# Altium schematic symbol library pcb_thermoklok_1.SCHLIB: 26 symbols
Pins are listed as number, name and electrical type; pins without a type are passive.

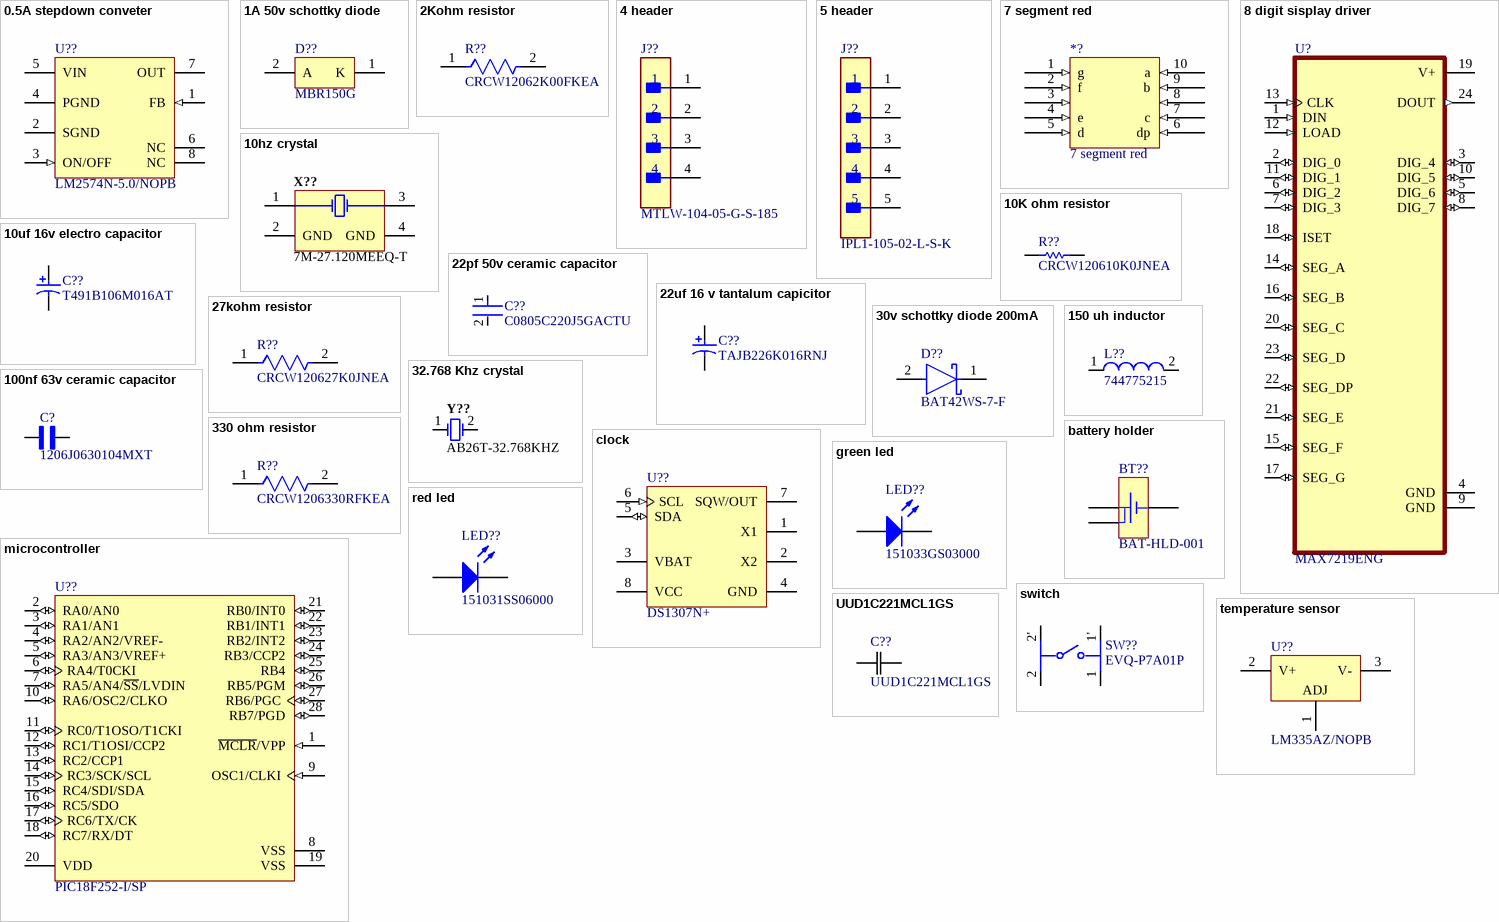
[diagram p0: symbols 0.5A stepdown conveter to UUD1C221MCL1GS]

## 0.5A stepdown conveter
designator U??, comment LM2574N-5.0/NOPB
SIMPLE SWITCHER® 0.5A Step-Down Voltage Regulator, 8-pin MDIP, Pb-Free; Manufacturer: Texas Instruments; Manufacturer: TI National Semiconductor; PowerWise: N; PackageTopMarking: NSUZXYTTE#*LM2574N*-5.0 P+; PinCount: 8; ComponentLink1URL: http://www.ti.com/general/docs/lit/getliterature.tsp?genericPartNumber=LM2574&fileType=pdf; CompType: Switcher; Code_JEDEC: MS-001-BA; ComponentLink1Description: Datasheet URL; RoHS: Y; PackageDescription: MDIP, .365 x .250 x .130in, 8 Lead, .100in Pitch; PackageReference: P0008A; Manufacturer Part Number: LM2574N-5.0/NOPB
footprint P0008A (DIP, 8-Leads, Body 10.15x6.6mm, Pitch 2.54mm)
pins: 1 FB (in), 2 SGND (power), 3 ON/OFF (in), 4 PGND (power), 5 VIN (power), 6 NC, 7 OUT (power), 8 NC

## 1A 50v schottky diode
designator D??, comment MBR150G
Rectifier, 2-Pin Axial_Lead, Pb-Free, Bulk Bag; Manufacturer: On Semiconductor; IFSM Max (A): 25; Configuration: Single; PackageVersion: Rev. U, 02/2005; Packing: Bulk Bag; ComponentLink3URL: http://www.onsemi.cn/pub_link/Collateral/59-10.PDF; ComponentLink1Description: Manufacturer URL; ComponentLink3Description: Package Specification; Mounting Technology: Through Hole; ComponentLink2Description: Datasheet; PartNumber: MBR150G; ComponentLink1URL: http://www.onsemi.com/; ComponentLink2URL: http://www.onsemi.cn/pub_link/Collateral/MBR150-D.PDF; PackageDescription: 2-Pin, Axial Lead, Diameter 2.35 mm; PackageReference: AXIAL_LEAD-2-59-10; DatasheetVersion: Rev. 8; RoHS: TRUE; Manufacturer: ON Semiconductor; Manufacturer Part Number: MBR150G
footprint ONSC-AXIAL_LEAD-2-59-10_P (AXIAL, 2-Leads, Diameter 2.35mm)
pins: 1 K, 2 A

## 2Kohm resistor
designator R??, comment CRCW12062K00FKEA
RES Thick Film, 2kΩ, 1%, 0.25W, 100ppm/°C, 1206; Manufacturer: Vishay; Manufacturer: Vishay Dale; Manufacturer Part Number: CRCW12062K00FKTC; Manufacturer: Yageo; Manufacturer Part Number: RC1206FR-072KL; Manufacturer: Panasonic; Manufacturer Part Number: ERJ-8ENF2001V; Manufacturer Part Number: CRCW12062K00FKTA; Manufacturer Part Number: CRCW12062K00FKTB; Manufacturer: Bourns; Manufacturer Part Number: CR1206-FX-2001ELF; Manufacturer: Rohm; Manufacturer Part Number: MCR18EZPF2001; Manufacturer Part Number: CRCW12062K00FKEB; Max Power Dissipation: 250mW; Voltage Rating: 200V; Resistance: 2kR; Package Quantity: 10; Height: 0.55mm; Tolerance: 1%; Number of Terminations: 2; Mount: Surface Mount; Width: 1.6mm; Length: 3.2mm; Features: Automotive AEC-Q200; Contact Plating: Tin; Number of Pins: 2; Weight: 0.000353oz; Max Operating Temperature: 155°C; Min Operating Temperature: -55°C; Termination: SMD/SMT; Temperature Coefficient: 100ppm/°C; Case Code (Imperial): 1206; Depth: 1.6mm; Military Standard: Not; Case Code (Metric): 3216; Composition: Thick Film; Power Rating: 250mW; Case/Package: 1206; Radiation Hardening: No; Packaging: Tape and Reel; Manufacturer Part Number: CRCW12062K00FKEA
footprint FP-CRCW1206-e3-IPC_A
footprint FP-CRCW1206-e3-IPC_C
footprint FP-CRCW1206-e3-IPC_B
footprint FP-CRCW1206-e3-MFG
pins: 1, 2

## 4 header
designator J??, comment MTLW-104-05-G-S-185
CONN HEADER VERT 4POS 2.54MM; Manufacturer: Samtec; Number of Contacts: 4; Contact Resistance: 15mR; Connector Type: Male Pin; Gender: Male; Contact Material: Brass; Height: 6.4mm; Contact Mating Length: 0.185inch; Length: 29.64mm; Number of Positions: 4; Packaging: Rail/Tube; Mount: Through Hole; Depth: 2.48mm; Number of Rows: 1; Radiation Hardening: No; Housing Material: Polymer; Pitch: 2.54mm; Max Operating Temperature: 105°C; Termination: Solder; Min Operating Temperature: -40°C; Color: Black; Orientation: Straight; Housing Color: Black; Contact Plating: Gold; Manufacturer Part Number: MTLW-104-05-G-S-185
footprint FP-MTLW-104-05-G-S-185-MFG
pins: 1, 2, 3, 4

## 5 header
designator J??, comment IPL1-105-02-L-S-K
5 Position 1 Row .100" (2.54 mm) pitch connector; Manufacturer: Samtec; Number of Positions: 5; Max Current Rating: 7.4A; Pitch: 2.54mm; Connector Type: Male Pin; Max Voltage Rating (AC): 675V; Number of Ports: 1; Gender: Male; Termination: Solder; Min Operating Temperature: -55°C; Max Operating Temperature: 125°C; Mount: Surface Mount; Contact Material: Bronze; Housing Material: Polymer; Depth: 7.04mm; Color: Natural; REACH SVHC: No SVHC; Radiation Hardening: No; Orientation: Straight; Fastening Type: Ramp; Contact Mating Length: 0.215inch; Number of Terminals/Pins: 5; Number of Rows: 1; Packaging: Rail/Tube; Contact Plating: Gold; Length: 14.22mm; Number of Contacts: 5; Lead Free: Lead Free; Manufacturer Part Number: IPL1-105-02-L-S-K
footprint FP-IPL1-105-02-L-S-K-0
pins: 1, 2, 3, 4, 5

## 7 segment red
designator *?
footprint 7 segment
pins: 1 g (in), 2 f (in), 3 (in), 4 e (in), 5 d (in), 6 dp (in), 7 c (in), 8 (in), 9 b (in), 10 a (in)

## 8 digit sisplay driver
designator U?, comment MAX7219ENG
8 digit display; MF: Maxim Integrated; Price: None; Package: DIP-24 Maxim Integrated; Value: *; MP: MAX7219ENG; Availability: Unavailable; SnapEDA_Link: https://www.snapeda.com/parts/MAX7219ENG/Maxim%20Integrated/view-part/1189180/?ref=snap
footprint DIP794W47P254L3213H457Q24
pins: 1 DIN (in), 2 DIG_0 (io), 3 DIG_4 (io), 4 GND (power), 5 DIG_6 (io), 6 DIG_2 (io), 7 DIG_3 (io), 8 DIG_7 (io), 9 GND (power), 10 DIG_5 (io), 11 DIG_1 (io), 12 LOAD (in), 13 CLK (in), 14 SEG_A (io), 15 SEG_F (io), 16 SEG_B (io), 17 SEG_G (io), 18 ISET (io), 19 V+ (power), 20 SEG_C (io), 21 SEG_E (io), 22 SEG_DP (io), 23 SEG_D (io), 24 DOUT (out)

## 10hz crystal
designator X??, comment 7M-27.120MEEQ-T
Seam Crystal, 7M Series, 3 pF, -40 to 85 degC, 4-Pin SMD, RoHS, Tape and Reel; Manufacturer: TXC; ESR (Equivalent Series Resistance): 60Ohm; Operating Mode: Fundamental; Frequency Stability: ±10ppm; Other Names: 887-1329-1; Catalog Drawings: 7MSeriesTop / 7MSeriesBottom / 7MSeriesSide / 7MSeriesCircuit; Frequency: 27.12MHz; Load Capacitance: 10pF; Mounting Technology: SurfaceMount; Type: MHzCrystal; Height: 0.031"(0.80mm); Mounting Type: SurfaceMount; Series: 7M; Package Reference: 7M-4; Size / Dimension: 0.126"Lx0.098"W(3.20mmx2.50mm); Package Description: 4-Pin Surface Mount Device, Body 3.2 x 2.5 mm; Datasheet URL: http://datasheet.octopart.com/7M-27.120MEEQ-T-TXC-datasheet-10979173.pdf; Operating Temperature: -20°C~70°C; Datasheet Version: 02/2010; Family: Crystals; Dynamic Catalog: 7MSeries; Packaging: CutTape(CT); Manufacturer URL: http://www.txccorp.com/; Standard Package: 1; Category: CrystalsandOscillators; Frequency Tolerance: ±10ppm; Package / Case: 4-SMD,NoLead(DFN,LCC); Manufacturer Part Number: 7M-27.120MEEQ-T
footprint TXC-7M-4_V (SMD, 4-Leads, Body 3.2x2.5mm)
pins: 1 X1, 2 GND (power), 3 X2, 4 GND (power)

## 10K ohm resistor
designator R??, comment CRCW120610K0JNEA
Manufacturer: Vishay Dale; Part Number: CRCW120610K0JNEA; Manufacturer Part Number: CRCW120610K0JNEA
footprint RESC3216X60X45ML10T20 (Chip Resistor, 2-Leads, Body 3.20x1.60mm, IPC Low Density)
footprint RESC3216X60X45LL10T20 (Chip Resistor, 2-Leads, Body 3.20x1.60mm, IPC High Density)
footprint RESC3216X60X45NL10T20 (Chip Resistor, 2-Leads, Body 3.20x1.60mm, IPC Medium Density)
pins: 1, 2
1 alternate drawing of the same symbol

## 10uf 16v electro capacitor
designator C??, comment T491B106M016AT
Tantalum Surface Mount Capacitor, 10 uF, +/- 20%, 16 V, -55 to 125 degC, 2-Pin SMD, RoHS, Tape and Reel; Manufacturer: Kemet; DF: 6%; Product Diameter (mm): NotRequiredmm; ESR: 2.8ohm; Capacitance: 10000000pF; Insulation: NotRequired; Rad Hardened: No; Polarity: Polar; Case Style: Molded; Product Depth (mm): 2.8mm; Product Length (mm): 3.5mm; Voltage: 16VDC; DCL: 1.6uA; Product Height (mm): 1.9mm; Mounting Technology: SurfaceMount; Package Reference: T491-B; Datasheet URL: http://www.kemet.com/Lists/ProductCatalog/Attachments/254/KEM_T2005_T491.pdf; Construction: SMTChip; Package / Case: 3528-21; Length W/Weld: NotRequiredmm; Seated Plane Height: NotRequiredmm; Datasheet Version: 06/2016; Seal: NotRequired; Mounting Style: SurfaceMount; Failure Rate: NotRequired; Operating Temp Range: -55Cto125C; Manufacturer URL: http://www.kemet.com/; Tolerance (+ or -): 20%; Case Code: B; Packaging: TapeandReel; Lead Spacing (nom): NotRequiredmm; Length W/Weld (max): NotRequiredmm; Package Description: 2-Pin Surface Mount Device, Body 3.5 x 2.8 mm; Wire Form: NotRequired; Manufacturer: KEMET; Manufacturer Part Number: T491B106M016AT
footprint KEMT-T491-B_L (Molded Capacitor, 2-Leads, Body 3.70x3.00mm, IPC High Density)
footprint KEMT-T491-B_M (Molded Capacitor, 2-Leads, Body 3.70x3.00mm, IPC Low Density)
footprint KEMT-T491-B_N (Molded Capacitor, 2-Leads, Body 3.70x3.00mm, IPC Medium Density)
pins: 1, 2

## 22pf 50v ceramic capacitor
designator C??, comment C0805C220J5GACTU
Capacitor; Ceramic; Cap; 22.0pF; Tol 5%; SMT; Vol-Rtg 50V; C0G; Tape and Reel; Manufacturer: KEMET; Temperature Coefficient: 30ppm/°C; Capacitance: 22 pF; Value: 22 pF; Tolerance: 0.05; Device Class L1: Passive Components; Mouser Description: Multilayer Ceramic Capacitors MLCC - SMD/SMT 50volts 22pF C0G 5%; Temperature Range Low: -55°C; Automotive: No; Voltage Rating: 50 V; Material: Ceramic; Category: Cap; Height: 0.88mm; Temperature Range High: +125°C; Digikey Description: Capacitor; Ceramic; Cap; 22.0pF; Tol 5%; SMT; Vol-Rtg 50V; C0G; Tape and Reel; Octopart: https://octopart.com/c0805c220j5gactu-kemet-145470; ComponentLink2Description: Datasheet; Device Class L2: Capacitors; Ipc Land Pattern Name: CAPC200125X78; RoHS: TRUE; ComponentLink2URL: https://content.kemet.com/datasheets/KEM_C1003_C0G_SMD.pdf; Temperature: -55°C to +125°C; Device Class L3: Ceramic Capacitors; Lead Free: Yes; Manufacturer Part Number: C0805C220J5GACTU; Temperature Characteristic: C0G; Package: C0805C-DN
footprint FP-C0805C-DN-MFG
footprint FP-C0805C-DN-IPC_C
footprint FP-C0805C-DN-IPC_B
footprint FP-C0805C-DN-IPC_A
pins: 1, 2

## 22uf 16 v tantalum capicitor
designator C??, comment TAJB226K016RNJ
Standard Tantalum, 22 uF, +/- 10%, 16 V, -55 to 125 degC, 2-Pin SMD (1210), RoHS, Tape and Reel; Manufacturer: AVX; Manufacturer: Kyocera AVX; Leakage Current: 3.5uA; Dissipation Factor: 6%; Voltage Rating (DC): 16V; Capacitance: 22uF; ESR (Equivalent Series Resistance): 2.3Ohm; Polarity: Polar; Package Quantity: 1; Tolerance: 10%; Number of Pins: 2; Manufacturer URL: http://www.avx.com/; Height - Seated (Max): 0.083inch; Case Code (Imperial): 1210; Package Reference: TAJ-B-2; Height: 1.9mm; Depth: 2.8mm; Packaging: TapeandReel; Termination: SMD/SMT; Case/Package: 1210; Lead Free: LeadFree; Min Operating Temperature: -55degC; RoHSCompliant: True; Dielectric Material: Tantalum; Case Code (Metric): 3528; Width: 2.8mm; Datasheet URL: http://datasheets.avx.com/TAJ.pdf; Radiation Hardening: No; Package Description: 2-Pin Surface Mount Device, Body 3.5 x 2.85 mm; Length: 3.5mm; Voltage Rating: 16V; Datasheet Version: 42401.0; Max Operating Temperature: 125degC; REACH SVHC: NoSVHC; Voltage: 16V; Manufacturer Part Number: TAJB226K016RNJ
footprint AVX-TAJ-B-2_M (Molded Capacitor, 2-Leads, Body 3.7x3mm, IPC Low Density)
footprint AVX-TAJ-B-2_N (Molded Capacitor, 2-Leads, Body 3.7x3mm, IPC Medium Density)
footprint AVX-TAJ-B-2_L (Molded Capacitor, 2-Leads, Body 3.7x3mm, IPC High Density)
pins: 1, 2

## 27kohm resistor
designator R??, comment CRCW120627K0JNEA
RES Thick Film, 27kΩ, 5%, 0.25W, 200ppm/°C, 1206; Manufacturer: Vishay Dale; Manufacturer Part Number: CRCW120627K0JNTA; Manufacturer: Yageo; Manufacturer Part Number: RC1206JR-0727KL; Manufacturer Part Number: CRCW120627K0JNEB; Manufacturer: Bourns; Manufacturer Part Number: CR1206-JW-273ELF; Manufacturer: Rohm; Manufacturer Part Number: MCR18EZPJ273; Manufacturer: Panasonic; Manufacturer Part Number: ERJ-8GEYJ273V; Power Rating: 250mW; Voltage Rating: 200V; Resistance: 27kR; Packaging: Tape and Reel; Number of Terminations: 2; Case Code (Metric): 3216; Temperature Coefficient: 200ppm/°C; Width: 1.6mm; Depth: 1.6mm; Height: 0.024inch; Min Operating Temperature: -55°C; Composition: Thick Film; Length: 3.2mm; Lead Free: Lead Free; Features: Automotive AEC-Q200; Case Code (Imperial): 1206; Radiation Hardening: No; Contact Plating: Tin; Case/Package: 1206; Weight: 0.000353oz; Military Standard: Not; Max Operating Temperature: 155°C; Voltage Rating (DC): 200V; Termination: SMD/SMT; Number of Pins: 2; Package Quantity: 1; Max Power Dissipation: 250mW; Tolerance: 5%; Manufacturer Part Number: CRCW120627K0JNEA
footprint FP-CRCW1206-e3-MFG
footprint FP-CRCW1206-e3-IPC_C
footprint FP-CRCW1206-e3-IPC_B
footprint FP-CRCW1206-e3-IPC_A
pins: 1, 2

## 30v schottky diode 200mA
designator D??, comment BAT42WS-7-F
DIODE SCHOTTKY 30V 200MA SOD323; Manufacturer: Diodes Inc.; Manufacturer: Diodes; Max Junction Temp: +125°C; Peak Reverse Current: 0.5uA; Max Surge Forward Current: 4A; Standoff Height: 0.05mm; Capacitance: 10pF; Value: 10pF; Package: SOD323; Max Repetitive Reverse Voltage: 30V; Digikey Description: DIODE SCHOTTKY 30V 200MA SOD323; Forward Current: 200mA; Lead Free: Yes; Device Class L1: Discrete Semiconductors; Height: 1.2mm; Mouser Description: Schottky Diodes & Rectifiers 30V 200mW; Footprint Url: https://www.diodes.com/assets/Package-Files/SOD323.pdf; Automotive: No; Device Class L3: Schottky Diodes; Temperature: -55°C to +125°C; ComponentLink2Description: Datasheet; Temperature Range High: +125°C; Manufacturer Part Number: BAT42WS-7-F; ComponentLink2URL: https://www.diodes.com/assets/Datasheets/ds30100.pdf; Reverse Voltage: 30V; Octopart: https://octopart.com/bat42ws-7-f-diodes+inc.-326107; Temperature Range Low: -55°C; Category: Diode; RoHS: TRUE; Device Class L2: Diodes
footprint FP-SOD323-MFG
footprint FP-SOD323-IPC_C
footprint FP-SOD323-IPC_B
footprint FP-SOD323-IPC_A
pins: 1 C, 2 A

## 32.768 Khz crystal
designator Y??, comment AB26T-32.768KHZ
Crystal, 12.5 pF, 32.768 KHz, -10 to 60 degC, 2-Pin THD, RoHS, Bulk; Manufacturer: ABRACON; ESR: 35kOhms; Frequency Stability: -0.034PPM; Load Capacitance: 12.5pF; Tolerance: 20PPM; Case Length: 6.2mm; Case Diameter: 2.1mm; RoHS: Details; Product Category: Crystals; Type: WatchCrystal; Manufacturer URL: http://www.abracon.com/; Operating Temperature Range: -10Cto+60C; Package Description: 2-Pin Through Hole Device, Dia 2.1 mm, Body Length 6.2 mm; Termination Style: Radial; Datasheet Version: 06/2010; Datasheet URL: http://www.abracon.com/Resonators/AB26T.pdf; Packaging: Bulk; Factory Pack Quantity: 500; Brand: ABRACON; Mounting Technology: ThroughHole; Package URL: http://www.abracon.com/Support/PackageDrawing/Resonators/AB26T.PDF; Package / Case: Cylinder; Lead Spacing: 0.8mm; Dimensions: 2.1mmDia.x6.2mmL; Mounting Style: ThroughHole; Frequency: 32.768kHz; Package Reference: AB26T; Series: AB26T; Manufacturer: Abracon; Manufacturer Part Number: AB26T-32.768KHZ
footprint ABRA-AB26T (THD, 2-Leads, Dia 2.1mm, Body Length 6.2mm)
pins: 1, 2

## 100nf 63v ceramic capacitor
designator C?, comment 1206J0630104MXT
63V Ceramic Capacitor; MF: Knowles Syfer; MP: 1206J0630104MXT; SnapEDA_Link: https://www.snapeda.com/parts/1206J0630104MXT/Knowles%20Syfer/view-part/4314687/?ref=snap; DigiKey-Purchase-URL: https://snapeda.com/shop?store=DigiKey&id=4314687; Mouser-Purchase-URL: https://snapeda.com/shop?store=Mouser&id=4314687; Value: *; Digi-Key_Part_Number: 1608-1392-1-ND; Package: 3216 Knowles Syfer
footprint CAPC3216X160N
pins: ?1, ?2

## 150 uh inductor
designator L??, comment 744775215
SMD Power Inductor WE-PD2, L = 150 µH; Manufacturer: Wurth Electronics; Inductance: 150 ÂµH; ComponentLink1Description: Manufacturer Link; ComponentLink2Description: Datasheet; DatasheetVersion: ver 1, Oct-2004; ComponentLink1URL: http://www.we-online.com; PackageDescription: SMD Inductor, 2-Leads, Body 7.8 x 7.0 mm; PackageVersion: 2004; PackageReference: WE-PD2-L; ComponentLink2URL: http://www.we-online.de/katalog/media/pdf/744775215.pdf; Manufacturer Part Number: 744775215
footprint WE-PD2-L (SMD Inductor, 2-Leads, Body 7.8x7.0x5.5 mm)
pins: 1, 2

## 330 ohm resistor
designator R??, comment CRCW1206330RFKEA
RES Thick Film, 330Ω, 1%, 0.25W, 100ppm/°C, 1206; Manufacturer: Vishay; Voltage Rating: 200V; Resistance: 330R; Max Power Dissipation: 250mW; Height: 0.55mm; Mount: Surface Mount; Min Operating Temperature: -55°C; Depth: 1.6mm; Features: Automotive AEC-Q200; Voltage Rating (DC): 200V; Military Standard: Not; Packaging: Tape and Reel; Composition: Thick Film; Contact Plating: Tin; Case Code (Imperial): 1206; Case/Package: 1206; Number of Terminations: 2; Length: 3.2mm; Lead Free: Lead Free; Tolerance: 1%; Temperature Coefficient: 100ppm/°C; Case Code (Metric): 3216; Width: 1.6mm; Weight: 0.000353oz; Termination: SMD/SMT; Radiation Hardening: No; Package Quantity: 10; Power Rating: 250mW; Max Operating Temperature: 155°C; Manufacturer Part Number: CRCW1206330RFKEA
footprint FP-CRCW1206-e3-IPC_A
footprint FP-CRCW1206-e3-IPC_C
footprint FP-CRCW1206-e3-MFG
footprint FP-CRCW1206-e3-IPC_B
pins: 1, 2

## battery holder
designator BT??, comment BAT-HLD-001
20mm Coin Cell Battery Holder; Manufacturer: Linx; PCB_Layout: Complies with manufacturer's recommendation.; DatasheetVersion: rev1.0, Dec-2007; PackageVersion: rev1.0, Dec-2007; PackageReference: BATHLD-001; PackageDescription: Low Profile SM Battery Holder, 20mm Lithium Cell, 21.1 x 15.3 x 4.2 mm Body; Manufacturer Part Number: BAT-HLD-001
footprint BATHLD-001 (Battery Holder, SM, 20mm Coin Cell, Body 21.1x15.3x4.2mm)
pins: 1 -, 2 +, 3 +

## clock
designator U??, comment DS1307N+
64 x 8, Serial, I2C Real-Time Clock, 5.0V, 8-Pin PDIP, -40 to 85 degC, Pb-Free; Manufacturer: Maxim; ComponentLink1Description: Manufacturer URL; ComponentLink2Description: Datasheet; DatasheetVersion: 10-Feb-2008; PackageDescription: 8-Pin Plastic Dual-In-Line, Narrow (0.3in), Pitch 2.54 mm, PDIP(N), Pb-Free; ComponentLink3URL: http://pdfserv.maxim-ic.com/package_dwgs/21-0043.PDF; PackageReference: P8+2; PackageVersion: revE, 2011; ComponentLink3Description: Package Specification; Code_JEDEC: MS-001-AB; ComponentLink1URL: http://www.maxim-ic.com; ComponentLink2URL: http://datasheets.maxim-ic.com/en/ds/DS1307.pdf; Manufacturer Part Number: DS1307N+
footprint P8+2 (DIP, 8-Leads, Row Spacing 7.62mm, Pitch 2.54mm, Body 9.4x7mm)
pins: 1 X1, 2 X2, 3 VBAT (power), 4 GND (power), 5 SDA (io), 6 SCL (in), 7 SQW/OUT (oc), 8 VCC (power)

## green led
designator LED??, comment 151033GS03000
THT LED round mono-color waterclear, THT WL-TMRW ,Green; Manufacturer: Wuerth Elektronik; Manufacturer: Wurth Electronics; ComponentLink2URL: http://katalog.we-online.de/pbs/datasheet/7448042001.pdfhttp://katalog.we-online.de/pbs/datasheet/7448042001.pdfhttp://katalog.we-online.de/pbs/datasheet/7448042001.pdfhttp://katalog.we-online.de/pbs/datasheet/151033GS03000.pdf; ComponentLink2Description: Datasheet; Emitting color: Green; ComponentLink1Description: Manufacturer URL; PackageReference: Type 3mm; PartNumber: 151033GS03000; ComponentLink1URL: http://www.we-online.com; Manufacturer Part Number: 151033GS03000
footprint Type 3mm (THT, LED-3mm, 2pin- Body 4.15mm(max))
pins: 1 K, 2 A

## microcontroller
designator U??, comment PIC18F252-I/SP
High Performance, Enhanced Flash Microcontroller with 10-Bit A/D, 40 MHz, 23 I/O, -40 to 85 degC, 28-pin SPDIP (SP28), Tube; Manufacturer: Microchip; # of A/D Channels: 5; Program Memory KBytes: 32; Operation Voltage Range: 4.2V - 5.5V; Program Memory KWords: 16; RAM: 1536; Timers: 1 - 8-bit, 3 - 16-bit; EEPROM Data Memory (bytes): 256; Max. CPU Speed MHz: 40; I/O Pins: 23; Digital Communication: 0 -UART, 1 -A/E/USART, 0 -SPI, 0 -I2C, 1 -MSSP(SPI/I2C); ComponentLink3URL: Product URL:http://www.microchip.com/datasheet/PIC18F252; PackageReference: SPDIP-SP28; RoHS: TRUE; ComponentLink1URL: http://ww1.microchip.com/downloads/en/DeviceDoc/39564c.pdf; PackageDescription: 28-Lead Plastic Dual In-Line, 34.86 x 6.79 mm Body, 2.54 mm Pitch; PartNumber: PIC18F252-I/SP; ComponentLink1Description: Datasheet; Memory Type: Flash; Packing: TUBE; ComponentLink2URL: http://www.microchip.com/stellent/groups/techpub_sg/documents/packagingspec/en012702.pdf; DatasheetVersion: Rev. C; ComponentLink2Description: Package Specification; ComponentLink3Description: URL Link1; Mounting Technology: Through Hole; PackageVersion: C04-070B, 12/2012; Manufacturer Part Number: PIC18F252-I/SP
footprint MCHP-SPDIP-SP28 (DIP, 28-Leads, Body 34.86x6.79mm, Pitch 2.54mm)
pins: 1 ~{MCLR}/VPP (in), 2 RA0/AN0 (io), 3 RA1/AN1 (io), 4 RA2/AN2/VREF- (io), 5 RA3/AN3/VREF+ (io), 6 RA4/T0CKI (io), 7 RA5/AN4/~{SS}/LVDIN (io), 8 VSS (power) "Ground reference for logic and I/O pins.", 9 OSC1/CLKI (in), 10 RA6/OSC2/CLKO (io), 11 RC0/T1OSO/T1CKI (io), 12 RC1/T1OSI/CCP2 (io), 13 RC2/CCP1 (io), 14 RC3/SCK/SCL (io), 15 RC4/SDI/SDA (io), 16 RC5/SDO (io), 17 RC6/TX/CK (io), 18 RC7/RX/DT (io), 19 VSS (power) "Ground reference for logic and I/O pins.", 20 VDD (power) "Positive supply for logic and I/O pins.", 21 RB0/INT0 (io), 22 RB1/INT1 (io), 23 RB2/INT2 (io), 24 RB3/CCP2 (io), 25 RB4 (io) "Digital I/O. Interrupt-on-change pin.", 26 RB5/PGM (io), 27 RB6/PGC (io), 28 RB7/PGD (io)

## red led
designator LED??, comment 151031SS06000
THT LED round mono-color color lens, WL-TMRW, Super Red; Manufacturer: Wuerth Elektronik; Manufacturer: Wurth Electronics; ComponentLink2URL: http://katalog.we-online.de/pbs/datasheet/7448042001.pdfhttp://katalog.we-online.de/pbs/datasheet/7448042001.pdfhttp://katalog.we-online.de/pbs/datasheet/7448042001.pdfhttp://katalog.we-online.de/pbs/datasheet/151031SS06000.pdf; ComponentLink1URL: http://www.we-online.com; PartNumber: 151031SS06000; ComponentLink2Description: Datasheet; PackageReference: Type 3mm; Emitting color: Super Red; ComponentLink1Description: Manufacturer URL; Manufacturer Part Number: 151031SS06000
footprint Type 3mm (THT, LED-3mm, 2pin- Body 4.15mm(max))
pins: 1 K, 2 A

## switch
designator SW??, comment EVQ-P7A01P
SWITCH TACTILE SPST-NO 0.05A 12V; Manufacturer: Panasonic; Operating Force: 2.2N; Contact Resistance: 500mΩ; Contact Current Rating: 50mA; Electromechanical Life: 100000Cycles; Device Class L2: Switches; Lead Free: Yes; Mount: Surface Mount; Digikey Description: SWITCH TACTILE SPST-NO 0.05A 12V; Temperature Range High: +70°C; Device Class L3: Tactile Switches; Package: EVQ-P7A01P; Voltage Rating Dc: 12V; Octopart: https://octopart.com/evq-p7a01p-panasonic-29917075; ComponentLink2URL: https://industrial.panasonic.com/cdbs/www-data/pdf/ATK0000/ATK0000C378.pdf; Automotive: No; Device Class L1: Electromechanical; Mouser Description: SWITCH TACTILE SPST-NO 0.05A 12V; Temperature: -20°C to +70°C; Manufacturer Part Number: EVQ-P7A01P; ComponentLink2Description: Datasheet; RoHS: TRUE; Category: Switch; Temperature Range Low: -20°C; Throw Configuration: SPST-NO; Height: 1.55mm
footprint FP-EVQ-P7A01P-MFG
pins: 1, 1', 2, 2'

## temperature sensor
designator U??, comment LM335AZ/NOPB
Precision Temperature Sensor, 3-pin TO-92, Pb-Free; Manufacturer: Texas Instruments; Manufacturer: TI National Semiconductor; PowerWise: N; CompType: Temp Sensor IC; PackageTopMarking: NSXYTT*LM335*AZ; PinCount: 3; ComponentLink1URL: http://www.ti.com/general/docs/lit/getliterature.tsp?genericPartNumber=LM335&fileType=pdf; Code_JEDEC: TO-226-AA; RoHS: Y; ComponentLink1Description: Datasheet URL; PackageReference: LP0003A; PackageDescription: TO-92, Molded, 3 Lead; Manufacturer Part Number: LM335AZ/NOPB
footprint LP0003A (TO, Flat Index; 3 In-Line, Formed Axial Leads; Body Dia. 4.8mm; Leads 0.56 x 0.41 mm (max))
pins: 1 ADJ, 2 V+, 3 V-

## UUD1C221MCL1GS
designator C??
No Description Available; Vendor: Nichicon; Built_By: EMA_UL_Team; SourceLibrary: Nichicon_2014-12-31; Type: DEV; Manufacturer_Part_Number: UUD1C221MCL1GS; Copyright: Copyright (C) 2018 Accelerated Designs. All rights reserved; RefDes: RefDes
footprint U2-K_NCH
footprint Model Name (Footprint not found)
pins: 1, 2